# EAGLE library part CONN_03X2_WE_61200621621 (library FRA_eagle_lib)
https://eu.mouser.com/ProductDetail/Wurth-Elektronik/61200621621?qs=sGAEpiMZZMs%252BGHln7q6pm%2FFhW%252BtWvhAgbNxkR%252BlwXp8Ip%2FAN9J9VOg%3D%3D https://eu.mouser.com/datasheet/2/445/6120xx21621-265830.pdf
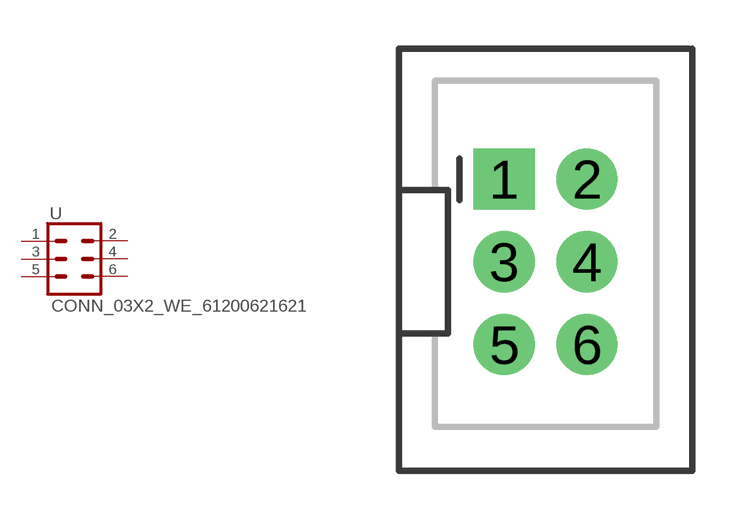
[diagram p2: symbol with the pads of WE_61200621621; footprint WE_61200621621]

Designator prefix -

## CONN_03X2_WE_61200621621  [WE_61200621621]
1  1
2  2
3  3
4  4
5  5
6  6

## Footprint WE_61200621621 (pad centres in mm)
drill 1 pad 1.88 square: 1 -1.27,2.54
drill 1 pad 1.88: 2 1.27,2.54; 3 -1.27,0; 4 1.27,0; 5 -1.27,-2.54; 6 1.27,-2.54